# EAGLE library part MA06-1 (library esbd-connectors)
PIN HEADER
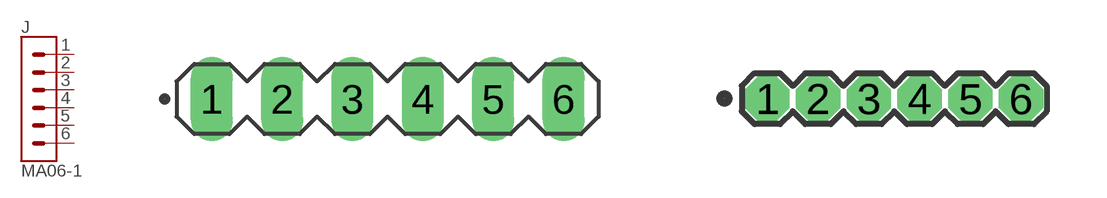
[diagram p9: symbol with the pads of MA06-1_TH_2.54MM; footprints MA06-1_TH_2.54MM, MA06-1_TH_1.27MM]

Designator prefix J

## MA06-1_TH_2.54MM  [MA06-1_TH_2.54MM]
1  1  pas
2  2  pas
3  3  pas
4  4  pas
5  5  pas
6  6  pas

## MA06-1_TH_1.27MM  [MA06-1_TH_1.27MM]
Pads as for MA06-1_TH_2.54MM

## Footprint MA06-1_TH_2.54MM (pad centres in mm)
PIN HEADER
drill 1.016 long: 1 -6.35,0; 2 -3.81,0; 3 -1.27,0; 4 1.27,0; 5 3.81,0; 6 6.35,0

## Footprint MA06-1_TH_1.27MM (pad centres in mm)
PIN HEADER
drill 0.6 octagon: 1 -3.175,0; 2 -1.905,0; 3 -0.635,0; 4 0.635,0; 5 1.905,0; 6 3.175,0